# Altium schematic symbol library microchip-regulator.SchLib: 2 symbols
Pins are listed as number, name and electrical type; pins without a type are passive.

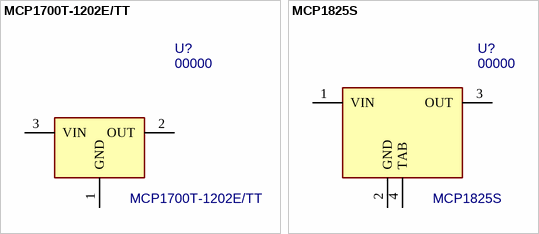
[diagram p0: symbols MCP1700T-1202E/TT to MCP1825S]

## MCP1700T-1202E/TT
designator U?, comment 00000  value MCP1700T-1202E/TT
Low-Dropout Regulator 200mA; MF: Microchip; PN: 00000; Package: SO-23; ExtraInfo: *
footprint SOT-23 (SOT23, 3-Leads, Body 3.0x2.8mm (max), Pitch 0.95mm, IPC High Density)
pins: 1 GND (power), 2 OUT (power), 3 VIN (power)

## MCP1825S
designator U?, comment 00000  value MCP1825S
Low-Dropout Regulator 500mA; MF: Microchip; PN: 00000; Package: SOT223-3; ExtraInfo: *
footprint SOT223-3 (3-Lead Plastic Small Outline Transistor)
pins: 1 VIN (power), 2 GND (power), 3 OUT (power), 4 TAB (power)